# Altium schematic symbol library HV577708PG.SchLib: 1 symbol
Pins are listed as number, name and electrical type; pins without a type are passive.

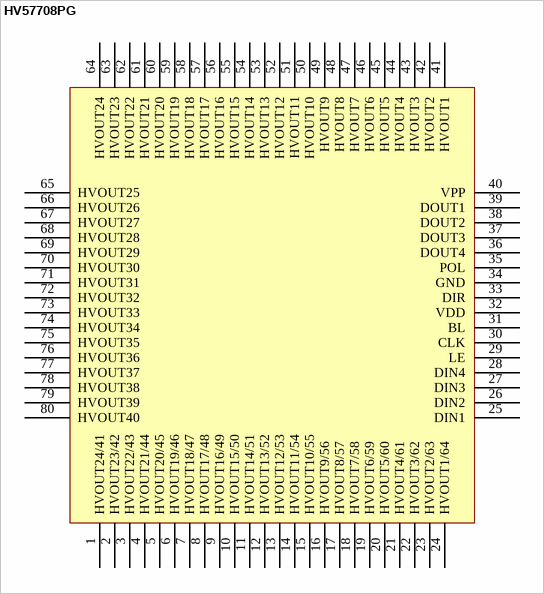
[diagram p0: symbol HV57708PG]

## HV57708PG
designator HV57708PG  (value not drawn)
pins: 1 HVOUT24/41, 2 HVOUT23/42, 3 HVOUT22/43, 4 HVOUT21/44, 5 HVOUT20/45, 6 HVOUT19/46, 7 HVOUT18/47, 8 HVOUT17/48, 9 HVOUT16/49, 10 HVOUT15/50, 11 HVOUT14/51, 12 HVOUT13/52, 13 HVOUT12/53, 14 HVOUT11/54, 15 HVOUT10/55, 16 HVOUT9/56, 17 HVOUT8/57, 18 HVOUT7/58, 19 HVOUT6/59, 20 HVOUT5/60, 21 HVOUT4/61, 22 HVOUT3/62, 23 HVOUT2/63, 24 HVOUT1/64, 25 DIN1, 26 DIN2, 27 DIN3, 28 DIN4, 29 LE, 30 CLK, 31 BL, 32 VDD, 33 DIR, 34 GND, 35 POL, 36 DOUT4, 37 DOUT3, 38 DOUT2, 39 DOUT1, 40 VPP, 41 HVOUT1, 42 HVOUT2, 43 HVOUT3, 44 HVOUT4, 45 HVOUT5, 46 HVOUT6, 47 HVOUT7, 48 HVOUT8, 49 HVOUT9, 50 HVOUT10, 51 HVOUT11, 52 HVOUT12, 53 HVOUT13, 54 HVOUT14, 55 HVOUT15, 56 HVOUT16, 57 HVOUT17, 58 HVOUT18, 59 HVOUT19, 60 HVOUT20, 61 HVOUT21, 62 HVOUT22, 63 HVOUT23, 64 HVOUT24, 65 HVOUT25, 66 HVOUT26, 67 HVOUT27, 68 HVOUT28, 69 HVOUT29, 70 HVOUT30, 71 HVOUT31, 72 HVOUT32, 73 HVOUT33, 74 HVOUT34, 75 HVOUT35, 76 HVOUT36, 77 HVOUT37, 78 HVOUT38, 79 HVOUT39, 80 HVOUT40